# EAGLE library part SW-DIP8 (library Digilent)
Dip Switch, 8 position
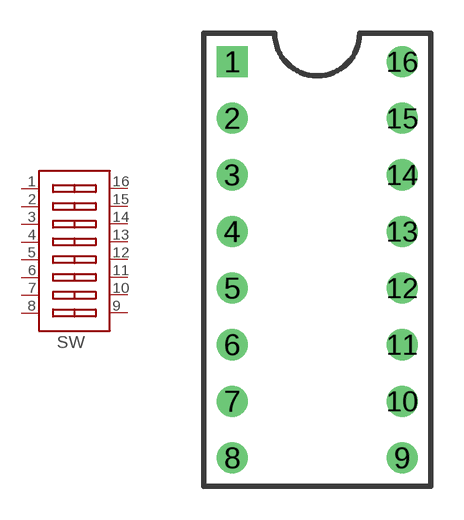
[diagram p67: symbol with the pads of DIP-16C; footprint DIP-16C]

Designator prefix SW

## SW-DIP8T  [DIP-16C]
1  1A  pas
2  2A  pas
3  3A  pas
4  4A  pas
5  5A  pas
6  6A  pas
7  7A  pas
8  8A  pas
9  8B  pas
10  7B  pas
11  6B  pas
12  5B  pas
13  4B  pas
14  3B  pas
15  2B  pas
16  1B  pas

## Footprint DIP-16C (pad centres in mm)
drill 0.889 square: 1 -3.81,8.89
drill 0.889 round: 2 -3.81,6.35; 3 -3.81,3.81; 4 -3.81,1.27; 5 -3.81,-1.27; 6 -3.81,-3.81; 7 -3.81,-6.35; 8 -3.81,-8.89; 9 3.81,-8.89; 10 3.81,-6.35; 11 3.81,-3.81; 12 3.81,-1.27; 13 3.81,1.27; 14 3.81,3.81; 15 3.81,6.35; 16 3.81,8.89